# Altium schematic symbol library CL21C220JBANNNC.SchLib: 2 symbols
Pins are listed as number, name and electrical type; pins without a type are passive.

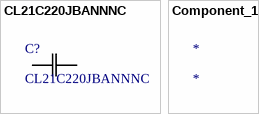
[diagram p0: symbols CL21C220JBANNNC to Component_1]

## CL21C220JBANNNC
designator C?
No Description Available; Mfr_Name: Samsung; Type: DEV; Copyright: Copyright (C) 2021 Ultra Librarian. All rights reserved.; Manufacturer_Part_Number: CL21C220JBANNNC; Digi-Key_Part_Number_1: 1276-1047-2-ND; Digi-Key_Part_Number_2: 1276-1047-1-ND; Digi-Key_Part_Number_3: 1276-1047-6-ND; RefDes: RefDes
footprint CAP_CL21_SAM
pins: 1, 2

## Component_1
designator *